# Altium integrated library WE-TVS TVS Diode-High Speed Series.IntLib: 10 symbols
Pins are listed as number, name and electrical type; pins without a type are passive.

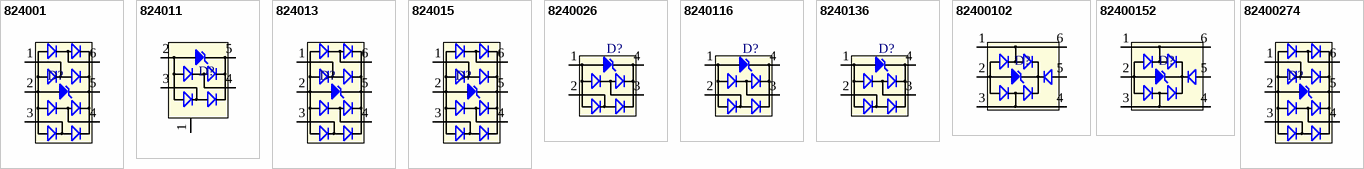
[diagram p0: symbols 824001 to 82400274]

## 824001
designator D?
TVS Diode WE-TVS-HS, VRWM=5V; PartNumber: 824001; Reverse Stand Off Voltage: 5V; PackageReference: SOT23_6L; ComponentLink1Description: Manufacturer URL; ComponentLink1URL: http://www.we-online.com; ComponentLink2Description: Datasheet; ComponentLink2URL: http://katalog.we-online.de/kataloge/eisos/media/pdf/824001.pdf
footprint SOT23_6L (SOT23_6L, 6-Leads, Body 3.60x2.9mm, Pitch 0.95mm)
pins: 1 I/O1, 2 GND, 3 I/O2, 4 I/O3, 5 VDD, 6 I/O4

## 824011
designator D?
TVS Diode WE-TVS-HS, VRWM=5V; PartNumber: 824011; Reverse Stand Off Voltage: 5V; PackageReference: SOT23_5L; ComponentLink1Description: Manufacturer URL; ComponentLink1URL: http://www.we-online.com; ComponentLink2Description: Datasheet; ComponentLink2URL: http://katalog.we-online.de/kataloge/eisos/media/pdf/824011.pdf
footprint SOT23_5L (SOT23_5L, 5-Leads, Body 3.60x2.9mm, Pitch 0.95mm)
pins: 1 NC, 2 GND, 3 I/O1, 4 I/O2, 5 VDD

## 824013
designator D?
TVS Diode WE-TVS-HS, VRWM=3.3V; PartNumber: 824013; Reverse Stand Off Voltage: 3.3V; PackageReference: SOT23_6L; ComponentLink1Description: Manufacturer URL; ComponentLink1URL: http://www.we-online.com; ComponentLink2Description: Datasheet; ComponentLink2URL: http://katalog.we-online.de/kataloge/eisos/media/pdf/824013.pdf
footprint SOT23_6L (SOT23_6L, 6-Leads, Body 3.60x2.9mm, Pitch 0.95mm)
pins: 1 I/O1, 2 GND, 3 I/O2, 4 I/O3, 5 VDD, 6 I/O4

## 824015
designator D?
TVS Diode WE-TVS-HS, VRWM=5V; PartNumber: 824015; Reverse Stand Off Voltage: 5V; PackageReference: SOT23_6L; ComponentLink1Description: Manufacturer URL; ComponentLink1URL: http://www.we-online.com; ComponentLink2Description: Datasheet; ComponentLink2URL: http://katalog.we-online.de/kataloge/eisos/media/pdf/824015.pdf
footprint SOT23_6L (SOT23_6L, 6-Leads, Body 3.60x2.9mm, Pitch 0.95mm)
pins: 1 I/O1, 2 GND, 3 I/O2, 4 I/O3, 5 VDD, 6 I/O4

## 8240026
designator D?
TVS Diode WE-TVS-HS, VRWM=5V; PartNumber: 8240026; Reverse Stand Off Voltage: 5V; PackageReference: SOT143-4L; ComponentLink1Description: Manufacturer URL; ComponentLink1URL: http://www.we-online.com; ComponentLink2Description: Datasheet; ComponentLink2URL: http://katalog.we-online.de/kataloge/eisos/media/pdf/8240026.pdf
footprint SOT143-4L (SOT143-4L, 4-Leads, Body 2.95x2.4mm, Pitch 1.70/1.90mm)
pins: 1 GND, 2 I/O1, 3 I/O2, 4 VDD

## 8240116
designator D?
TVS Diode WE-TVS-HS, VRWM=5V; PartNumber: 8240116; Reverse Stand Off Voltage: 5V; PackageReference: SOT143-4L; ComponentLink1Description: Manufacturer URL; ComponentLink1URL: http://www.we-online.com; ComponentLink2Description: Datasheet; ComponentLink2URL: http://katalog.we-online.de/kataloge/eisos/media/pdf/8240116.pdf
footprint SOT143-4L (SOT143-4L, 4-Leads, Body 2.95x2.4mm, Pitch 1.70/1.90mm)
pins: 1 GND, 2 I/O1, 3 I/O2, 4 VDD

## 8240136
designator D?
TVS Diode WE-TVS-HS, VRWM=3.3V; PartNumber: 8240136; Reverse Stand Off Voltage: 3.3V; PackageReference: SOT143-4L; ComponentLink1Description: Manufacturer URL; ComponentLink1URL: http://www.we-online.com; ComponentLink2Description: Datasheet; ComponentLink2URL: http://katalog.we-online.de/kataloge/eisos/media/pdf/8240136.pdf
footprint SOT143-4L (SOT143-4L, 4-Leads, Body 2.95x2.4mm, Pitch 1.70/1.90mm)
pins: 1 GND, 2 I/O1, 3 I/O2, 4 VDD

## 82400102
designator D?
TVS Diode WE-TVS-HS, VRWM=5.0V; PartNumber: 82400102; Reverse Stand Off Voltage: 5V; PackageReference: SOT23_6L; ComponentLink1Description: Manufacturer URL; ComponentLink1URL: http://www.we-online.com; ComponentLink2Description: Datasheet; ComponentLink2URL: http://katalog.we-online.de/kataloge/eisos/media/pdf/82400102.pdf
footprint SOT23_6L (SOT23_6L, 6-Leads, Body 3.60x2.9mm, Pitch 0.95mm)
pins: 1 I/O1, 2 GND, 3 I/O2, 4 I/O2, 5 VDD, 6 I/O1

## 82400152
designator D?
TVS Diode WE-TVS-HS, VRWM=5.0V; PartNumber: 82400152; Reverse Stand Off Voltage: 5V; PackageReference: SOT563; ComponentLink1Description: Manufacturer URL; ComponentLink1URL: http://www.we-online.com; ComponentLink2Description: Datasheet; ComponentLink2URL: http://katalog.we-online.de/kataloge/eisos/media/pdf/82402304.pdf
footprint SOT563 (SOT563, 6-Leads, Body 1.6x1.6mm, Pitch 0.5mm)
pins: 1 I/O1, 2 GND, 3 I/O2, 4 I/O2, 5 VDD, 6 I/O1

## 82400274
designator D?
TVS Diode WE-TVS-HS, VRWM=5.0V; PartNumber: 82400274; Reverse Stand Off Voltage: 5V; PackageReference: SC70-6L; ComponentLink1Description: Manufacturer URL; ComponentLink1URL: http://www.we-online.com; ComponentLink2Description: Datasheet; ComponentLink2URL: http://katalog.we-online.de/kataloge/eisos/media/pdf/82400274.pdf
footprint SC70-6L (SC70, 6-Leads, Body 2.20x2.7mm, Pitch 0.65mm)
pins: 1 I/O1, 2 GND, 3 I/O2, 4 I/O3, 5 VDD, 6 I/O4